# Altium footprint library Mechanical.PcbLib: 23 footprints (part 2 of 2)
Each footprint in its own frame and in the unit in brackets; x right, y up, seen from the top. Pads: shape width x height; smd on the part's side, far side on the other; paste and mask are expansions set on the pad; w line width, h text height; cw(c..) or ccw(c..) is an arc to the next point about the centre after c.
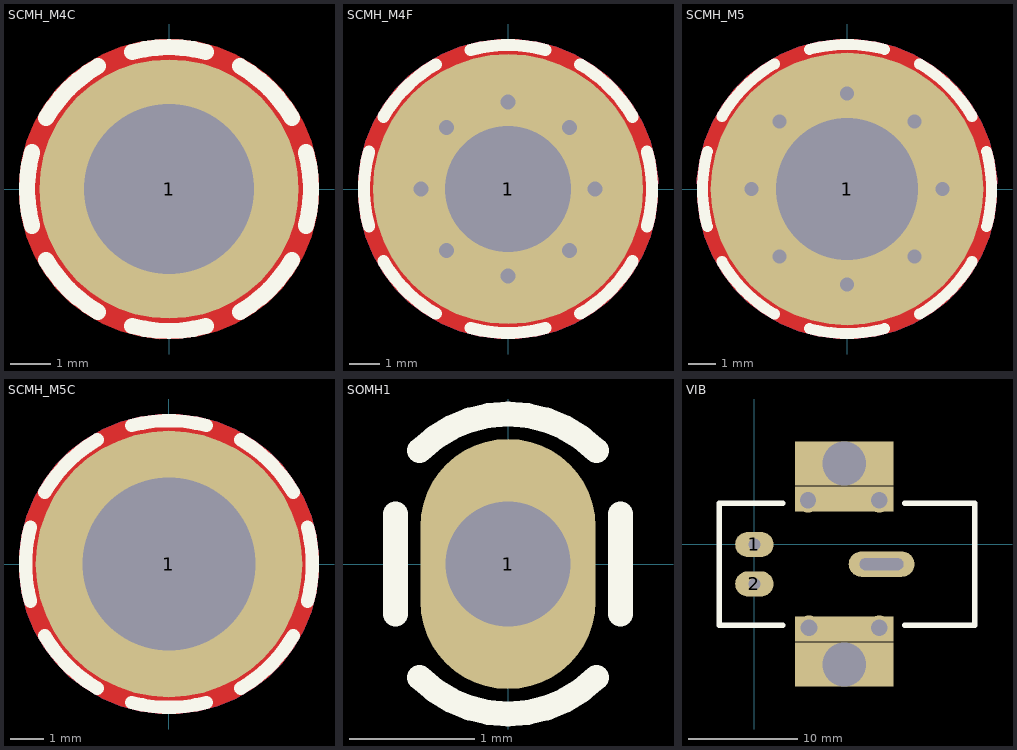
[diagram p1: the footprints below, top view; thin cyan lines are the x and y axes]

## SCMH_M4C [mm] "SCREW mouting, M4, 4mm diameter and 8.0mm CheeseHead"
pads (1):
  round 6.4 / inner round 4.5 / far side round 6.4 hole 4.2 mask+0.1: 1(0,0)
Top Layer:
  pour cut-out: 0,3.7 -0.243,3.7 -0.723,3.637 -1.192,3.511 -1.64,3.326 -2.06,3.083 -2.445,2.788 -2.788,2.445 -3.083,2.06 -3.326,1.64 -3.511,1.192 -3.637,0.724 -3.7,0.243 -3.7,0 -3.7,-0.242 -3.637,-0.723 -3.511,-1.192 -3.326,-1.64 -3.083,-2.06 -2.788,-2.445 -2.445,-2.788 -2.06,-3.083 -1.64,-3.325 -1.192,-3.511 -0.723,-3.636 -0.243,-3.7 0,-3.7 0.242,-3.7 0.723,-3.636 1.192,-3.511 1.64,-3.325 2.06,-3.083 2.445,-2.787 2.788,-2.445 3.083,-2.06 3.326,-1.64 3.511,-1.192 3.637,-0.723 3.7,-0.242 3.7,0 3.7,0.243 3.637,0.724 3.511,1.192 3.326,1.64 3.083,2.06 2.788,2.445 2.445,2.788 2.06,3.083 1.64,3.326 1.192,3.512 0.723,3.637 0.242,3.7
Top Overlay:
  lines w0.4: -3.381,-0.906 cw(c0,0) -3.381,0.906 ; -3.031,-1.75 ccw(c0,0) -1.75,-3.031 ; -3.031,1.75 cw(c0,0) -1.75,3.031 ; -0.906,-3.381 ccw(c0,0) 0.906,-3.381 ; -0.906,3.381 cw(c0,0) 0.906,3.381 ; 1.75,-3.031 ccw(c0,0) 3.031,-1.75 ; 1.75,3.031 cw(c0,0) 3.031,1.75 ; 3.381,-0.906 ccw(c0,0) 3.381,0.906

## SCMH_M4F [mm] "SCREW mouting, M4, 4mm diameter and 8.0mm FlangeHead"
pads (1):
  round 9 / inner round 4.5 / far side round 9 hole 4.2 mask+0.1: 1(0,0)
via 0,2.9 diameter 0.8 hole 0.5
via 0,-2.9 diameter 0.8 hole 0.5
via 2.051,-2.051 diameter 0.8 hole 0.5
via -2.051,2.051 diameter 0.8 hole 0.5
via 2.9,0 diameter 0.8 hole 0.5
via -2.9,0 diameter 0.8 hole 0.5
via 2.051,2.051 diameter 0.8 hole 0.5
via -2.051,-2.051 diameter 0.8 hole 0.5
Top Layer:
  pour cut-out: 0,5 -0.328,5 -0.978,4.915 -1.611,4.745 -2.216,4.494 -2.784,4.167 -3.304,3.768 -3.767,3.304 -4.166,2.784 -4.494,2.217 -4.745,1.611 -4.914,0.978 -5,0.328 -5,0 -5,-0.327 -4.914,-0.977 -4.745,-1.61 -4.494,-2.216 -4.166,-2.784 -3.767,-3.304 -3.304,-3.767 -2.784,-4.166 -2.216,-4.494 -1.611,-4.745 -0.978,-4.914 -0.328,-5 0,-5 0.328,-5 0.978,-4.914 1.611,-4.745 2.216,-4.494 2.784,-4.166 3.304,-3.767 3.767,-3.304 4.166,-2.784 4.494,-2.216 4.745,-1.61 4.914,-0.977 5,-0.327 5,0 5,0.328 4.914,0.978 4.745,1.611 4.494,2.217 4.166,2.784 3.767,3.304 3.304,3.768 2.784,4.167 2.216,4.494 1.611,4.745 0.978,4.915 0.328,5
Bottom Layer:
  pour cut-out: 0,5 -0.328,5 -0.978,4.915 -1.611,4.745 -2.216,4.494 -2.784,4.167 -3.304,3.768 -3.767,3.304 -4.166,2.784 -4.494,2.217 -4.745,1.611 -4.914,0.978 -5,0.328 -5,0 -5,-0.327 -4.914,-0.977 -4.745,-1.61 -4.494,-2.216 -4.166,-2.784 -3.767,-3.304 -3.304,-3.767 -2.784,-4.166 -2.216,-4.494 -1.611,-4.745 -0.978,-4.914 -0.328,-5 0,-5 0.328,-5 0.978,-4.914 1.611,-4.745 2.216,-4.494 2.784,-4.166 3.304,-3.767 3.767,-3.304 4.166,-2.784 4.494,-2.216 4.745,-1.61 4.914,-0.977 5,-0.327 5,0 5,0.328 4.914,0.978 4.745,1.611 4.494,2.217 4.166,2.784 3.767,3.304 3.304,3.768 2.784,4.167 2.216,4.494 1.611,4.745 0.978,4.915 0.328,5
Top Overlay:
  lines w0.4: -4.636,-1.242 cw(c0,0) -4.636,1.242 ; -4.157,-2.4 ccw(c0,0) -2.4,-4.157 ; -4.157,2.4 cw(c0,0) -2.4,4.157 ; -1.242,-4.636 ccw(c0,0) 1.242,-4.636 ; -1.242,4.636 cw(c0,0) 1.242,4.636 ; 2.4,-4.157 ccw(c0,0) 4.157,-2.4 ; 2.4,4.157 cw(c0,0) 4.157,2.4 ; 4.636,-1.242 ccw(c0,0) 4.636,1.242

## SCMH_M5 [mm] "SCREW mouting, M5, 5mm diameter and 10.0mm PanHead"
pads (1):
  round 10 / inner round 5.5 / far side round 10 hole 5.2 mask+0.1: 1(0,0)
via 0,3.5 diameter 0.8 hole 0.5
via 0,-3.5 diameter 0.8 hole 0.5
via 2.475,-2.475 diameter 0.8 hole 0.5
via -2.475,2.475 diameter 0.8 hole 0.5
via 3.5,0 diameter 0.8 hole 0.5
via -3.5,0 diameter 0.8 hole 0.5
via 2.475,2.475 diameter 0.8 hole 0.5
via -2.475,-2.475 diameter 0.8 hole 0.5
Top Layer:
  pour cut-out: 0,5.5 -0.36,5.5 -1.075,5.406 -1.772,5.219 -2.438,4.944 -3.062,4.583 -3.634,4.144 -4.144,3.634 -4.583,3.062 -4.943,2.438 -5.219,1.772 -5.406,1.076 -5.5,0.361 -5.5,0 -5.5,-0.36 -5.406,-1.075 -5.219,-1.771 -4.943,-2.437 -4.583,-3.062 -4.144,-3.634 -3.634,-4.144 -3.062,-4.582 -2.437,-4.943 -1.771,-5.219 -1.075,-5.405 -0.36,-5.499 0.001,-5.499 0.361,-5.499 1.076,-5.405 1.772,-5.218 2.438,-4.943 3.062,-4.582 3.634,-4.143 4.144,-3.633 4.583,-3.062 4.943,-2.437 5.219,-1.771 5.406,-1.075 5.5,-0.36 5.5,0 5.5,0.361 5.406,1.076 5.219,1.772 4.943,2.438 4.583,3.062 4.144,3.634 3.634,4.144 3.062,4.583 2.438,4.944 1.772,5.219 1.075,5.406 0.36,5.5
Bottom Layer:
  pour cut-out: 0,5.5 -0.36,5.5 -1.075,5.406 -1.772,5.219 -2.438,4.944 -3.062,4.583 -3.634,4.144 -4.144,3.634 -4.583,3.062 -4.943,2.438 -5.219,1.772 -5.406,1.076 -5.5,0.361 -5.5,0 -5.5,-0.36 -5.406,-1.075 -5.219,-1.771 -4.943,-2.437 -4.583,-3.062 -4.144,-3.634 -3.634,-4.144 -3.062,-4.582 -2.437,-4.943 -1.771,-5.219 -1.075,-5.405 -0.36,-5.499 0.001,-5.499 0.361,-5.499 1.076,-5.405 1.772,-5.218 2.438,-4.943 3.062,-4.582 3.634,-4.143 4.144,-3.633 4.583,-3.062 4.943,-2.437 5.219,-1.771 5.406,-1.075 5.5,-0.36 5.5,0 5.5,0.361 5.406,1.076 5.219,1.772 4.943,2.438 4.583,3.062 4.144,3.634 3.634,4.144 3.062,4.583 2.438,4.944 1.772,5.219 1.075,5.406 0.36,5.5
Top Overlay:
  lines w0.4: -5.119,-1.372 cw(c0,0) -5.119,1.372 ; -4.59,-2.65 ccw(c0,0) -2.65,-4.59 ; -4.59,2.65 cw(c0,0) -2.65,4.59 ; -1.372,-5.119 ccw(c0,0) 1.372,-5.119 ; -1.372,5.119 cw(c0,0) 1.372,5.119 ; 2.65,-4.59 ccw(c0,0) 4.59,-2.65 ; 2.65,4.59 cw(c0,0) 4.59,2.65 ; 5.119,-1.372 ccw(c0,0) 5.119,1.372

## SCMH_M5C [mm] "SCREW mouting, M5, 5mm diameter and 10.0mm CheeseHead"
pads (1):
  round 8 / inner round 5.5 / far side round 8 hole 5.2 mask+0.1: 1(0,0)
Top Layer:
  pour cut-out: 0.001,4.5 -0.294,4.5 -0.879,4.423 -1.449,4.27 -1.994,4.045 -2.505,3.75 -2.973,3.391 -3.39,2.974 -3.749,2.506 -4.044,1.995 -4.269,1.45 -4.422,0.88 -4.499,0.295 -4.499,0 -4.499,-0.295 -4.422,-0.879 -4.269,-1.449 -4.043,-1.994 -3.748,-2.505 -3.389,-2.973 -2.972,-3.39 -2.504,-3.748 -1.993,-4.043 -1.448,-4.269 -0.879,-4.421 -0.294,-4.498 0.001,-4.498 0.296,-4.498 0.881,-4.421 1.45,-4.269 1.995,-4.043 2.506,-3.748 2.974,-3.389 3.391,-2.972 3.75,-2.504 4.044,-1.994 4.27,-1.449 4.423,-0.879 4.5,-0.295 4.5,0 4.5,0.295 4.423,0.88 4.27,1.45 4.045,1.995 3.75,2.506 3.391,2.973 2.974,3.391 2.506,3.75 1.995,4.045 1.45,4.27 0.88,4.423 0.296,4.5
Bottom Layer:
  pour cut-out: 0.001,4.5 -0.294,4.5 -0.879,4.423 -1.449,4.27 -1.994,4.045 -2.505,3.75 -2.973,3.391 -3.39,2.974 -3.749,2.506 -4.044,1.995 -4.269,1.45 -4.422,0.88 -4.499,0.295 -4.499,0 -4.499,-0.295 -4.422,-0.879 -4.269,-1.449 -4.043,-1.994 -3.748,-2.505 -3.389,-2.973 -2.972,-3.39 -2.504,-3.748 -1.993,-4.043 -1.448,-4.269 -0.879,-4.421 -0.294,-4.498 0.001,-4.498 0.296,-4.498 0.881,-4.421 1.45,-4.269 1.995,-4.043 2.506,-3.748 2.974,-3.389 3.391,-2.972 3.75,-2.504 4.044,-1.994 4.27,-1.449 4.423,-0.879 4.5,-0.295 4.5,0 4.5,0.295 4.423,0.88 4.27,1.45 4.045,1.995 3.75,2.506 3.391,2.973 2.974,3.391 2.506,3.75 1.995,4.045 1.45,4.27 0.88,4.423 0.296,4.5
Top Overlay:
  lines w0.4: -4.153,-1.113 cw(c0,0) -4.153,1.113 ; -3.724,-2.15 ccw(c0,0) -2.15,-3.724 ; -3.724,2.15 cw(c0,0) -2.15,3.724 ; -1.113,-4.153 ccw(c0,0) 1.113,-4.153 ; -1.113,4.153 cw(c0,0) 1.113,4.153 ; 2.15,-3.724 ccw(c0,0) 3.724,-2.15 ; 2.15,3.724 cw(c0,0) 3.724,2.15 ; 4.153,-1.113 ccw(c0,0) 4.153,1.113

## SCRW_M3 [mm] "SCREW, M3, 3.0mm diameter and 6.0mm PanHead"
3D body "Screw_M3x5.stp": height 2.28, standoff -5, extent -2.745,-2.745 2.745,2.745

## SOMH1 [mm] "Solder Mounting, Hole 1mm"
pads (1):
  oval 1.4x2 hole 1 mask+0.1: 1(0,0)
Top Overlay:
  lines w0.2: -0.9,-0.4 -0.9,0.4 ; -0.707,-0.907 ccw(c0,-0.2) 0.707,-0.907 ; -0.707,0.907 cw(c0,0.2) 0.707,0.907 ; 0.9,-0.4 0.9,0.4

## VIB [mm]
pads (7):
  oval 3.5x2.3 hole 1.1 mask+0.1: 1(0,0) 2(0,-3.596)
  rect 9x4 hole 4 square mask+0.1: ""(8.193,-10.96) ""(8.193,7.4)
  rect 9x2.3 all layers, no hole: ""(8.193,4.152) ""(8.2,-7.712)
  oval 6x2.3 hole 1.1 slot 4 at 0 deg mask+0.1: ""(11.6,-1.798)
via 4.893,4.05 diameter 2.3 hole 1.5
via 4.993,-7.603 diameter 2.286 hole 1.524
via 11.393,-7.603 diameter 2.286 hole 1.524
via 11.4,4.05 diameter 2.3 hole 1.5
Top Overlay:
  lines w0.5: 2.6,-7.346 -3.2,-7.346 -3.2,3.75 2.6,3.75 ; 13.7,-7.346 20.1,-7.346 20.1,3.75 13.7,3.75
3D body "User Library-Vibrator-motor.STEP": height 6.6, standoff -1.6, extent -0.1,-5.1 14.8,1.5